# Altium schematic symbol library 4N35.SCHLIB: 1 symbol
Pins are listed as number, name and electrical type; pins without a type are passive.

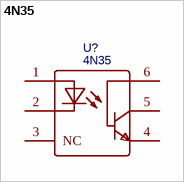
[diagram p0: symbol 4N35]

## 4N35
designator U?
Manufacturer: EVERLIGHT(亿光); Supplier: LCSC; Manufacturer Part: 4N35; Supplier Part: C57084; JLCPCB Part Class: Extended Part; spicePre: U; spiceSymbolName: 4N35
footprint DIP-6_L8.5-W6.4-P2.54-LS7.6-BL
pins: 1, 2, 3 NC, 4, 5, 6